# Altium schematic symbol library Resistors.SchLib: 7 symbols
Pins are listed as number, name and electrical type; pins without a type are passive.

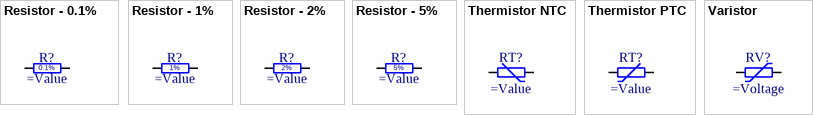
[diagram p0: symbols Resistor - 0.1% to Varistor]

## Resistor - 0.1%
designator R?
Resistor - 0.1%
pins: 1, 2
text: 0.1%

## Resistor - 1%
designator R?
Resistor - 1%
pins: 1, 2
text: 1%

## Resistor - 2%
designator R?
Resistor - 2%
pins: 1, 2
text: 2%

## Resistor - 5%
designator R?
Resistor - 5%
pins: 1, 2
text: 5%

## Thermistor NTC
designator RT?
Thermistor NTC (Negative Temperature Coefficient)
pins: 1, 2

## Thermistor PTC
designator RT?
Thermistor NTC (Positive Temperature Coefficient)
pins: 1, 2

## Varistor
designator RV?
Varistor
pins: 1, 2